# Altium integrated library Infineon_Automotive_System_IC.IntLib: 25 symbols (part 1 of 3)
Pins are listed as number, name and electrical type; pins without a type are passive.

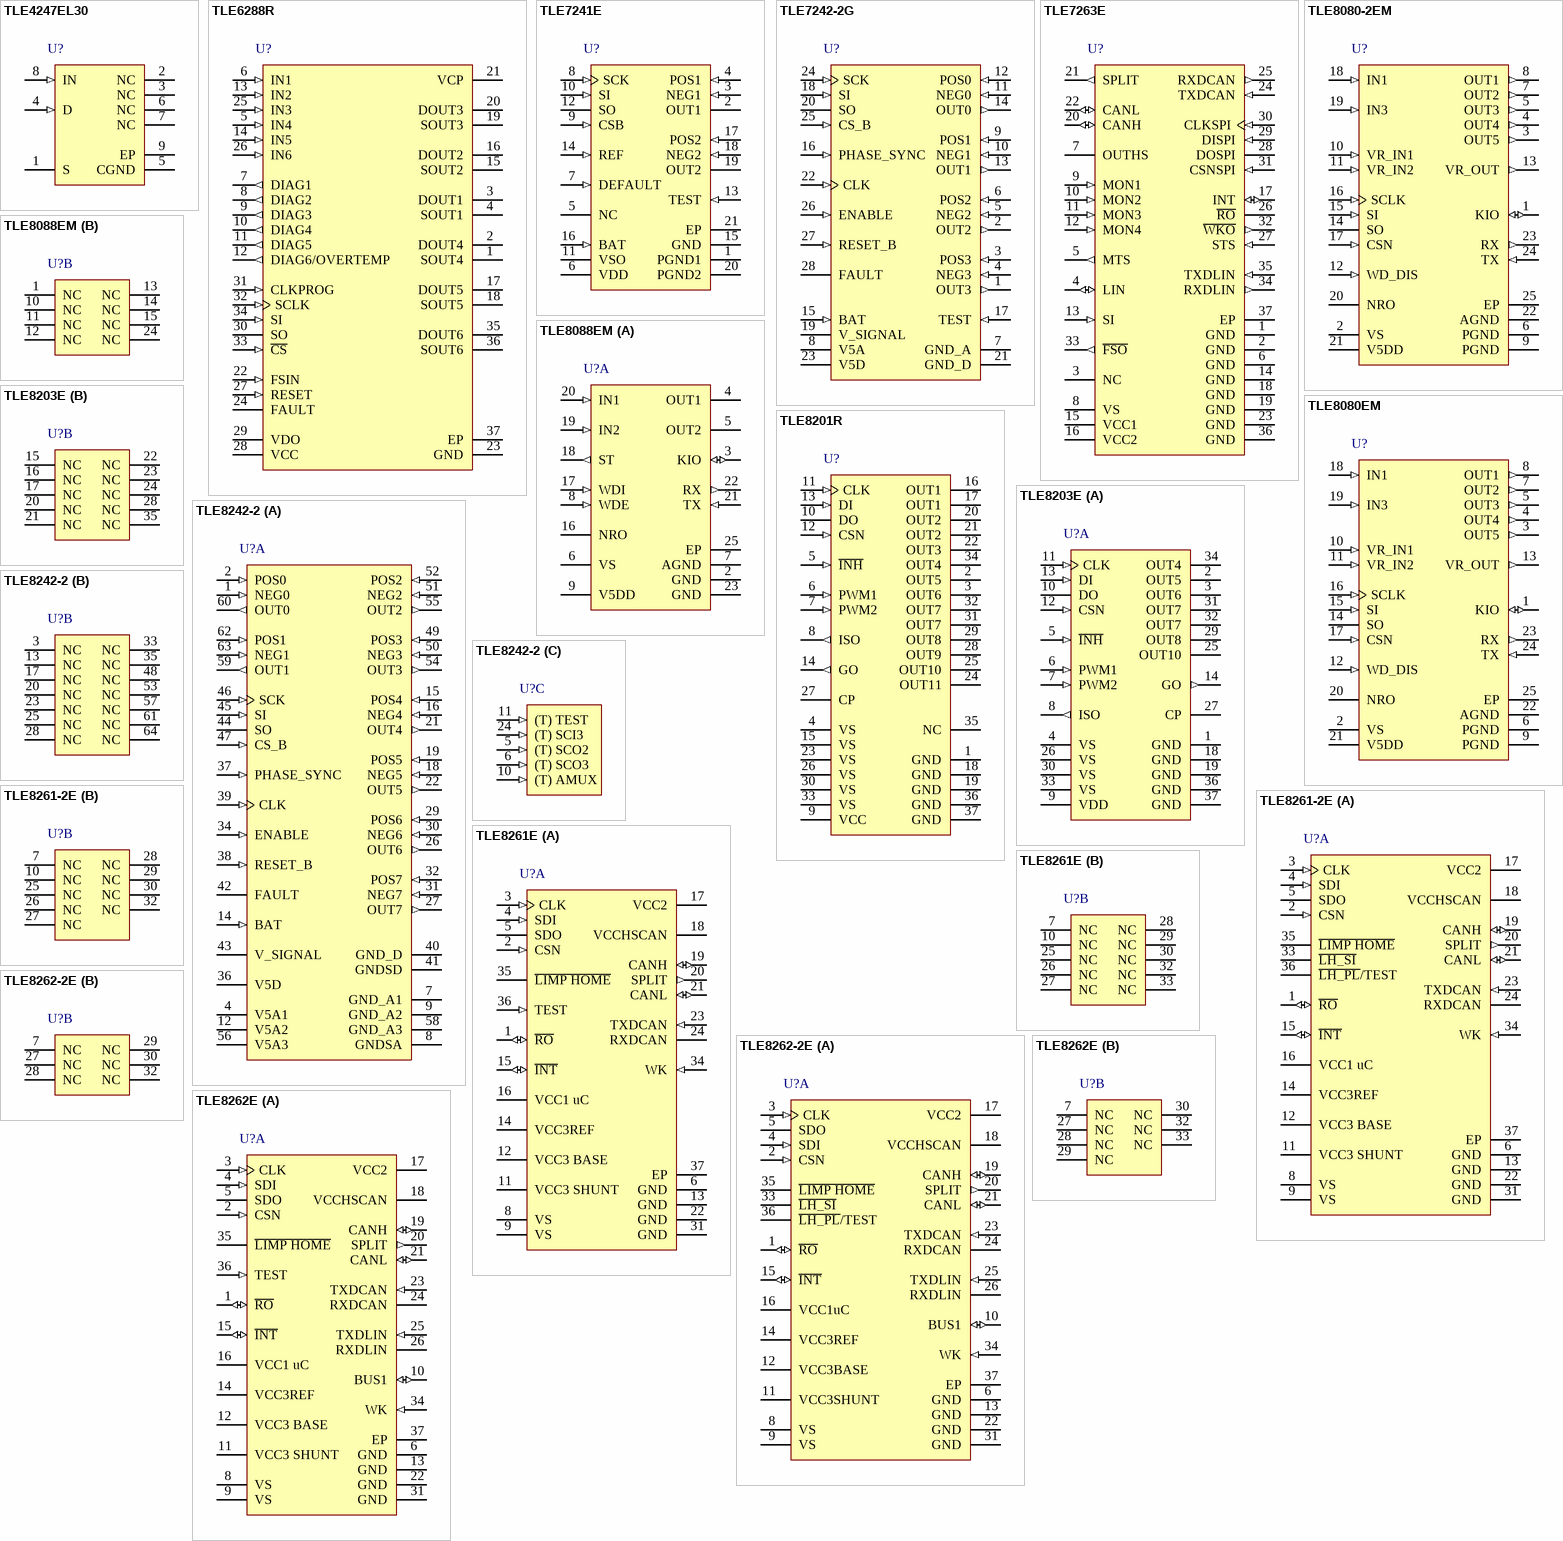
[diagram p0: symbols TLE4247EL30 to TLE8262E]

## TLE4247EL30
designator U?
Constant Current Relay Driver, 3 to 30 V, -40 to 150 degC, PG-DSO-8, Reel, Green; Manufacturer: Infineon; PartNumber: TLE4247EL30; Activation Time Period: 135 ms; Current Consumption (typ.) Hold Mode: 0.85 mA; Green: TRUE; Hold Current (typ): 30 mA; Supply Voltage: 3 to 30 V; DatasheetVersion: Rev. 1.0; PackageVersion: V01, 06/2012; PackageReference: PG-DSO-8-27; PackageDescription: 8-Pin Plastic (Green) Dual Small Outline Package, 4.9 x 3.9 mm Body, 1.27 mm Pitch; Supplier 1: Mouser; Supplier Part Number 1: N/A; Halogen-free: TRUE; Packing: Reel; Mounting Technology: Surface Mount; Code_JEDEC: MS-012; ComponentLink1Description: Manufacturer URL; ComponentLink1URL: http://www.infineon.com/; ComponentLink2Description: Datasheet; ComponentLink2URL: http://www.infineon.com/dgdl/TLE4247EL30-Data-Sheet-10-Infineon.pdf?folderId=db3a30433e4143bd013e45999a993f1d&fileId=db3a3043405f2978014062036317274c; ComponentLink3Description: Package Specification; ComponentLink3URL: http://www.infineon.com/cms/packages/SMD_-_Surface_Mounted_Devices/P-PG-DSO/P-PG-DSO-08-27.html?__locale=en
footprint INF-PG-DSO-8-27_N (SOP, 8-Leads, Body 4.9x3.9mm, Pitch 1.27mm, Thermal Pad 3.2x2.85mm, IPC Medium Density)
footprint INF-PG-DSO-8-27_L (SOP, 8-Leads, Body 4.9x3.9mm, Pitch 1.27mm, Thermal Pad 3.2x2.85mm, IPC High Density)
footprint INF-PG-DSO-8-27_M (SOP, 8-Leads, Body 4.9x3.9mm, Pitch 1.27mm, Thermal Pad 3.2x2.85mm, IPC Low Density)
pins: 1 S (power) "IC Supply; connect to relay coil freewheeling resistor according to Figure 1.", 2 NC "Not Connected; connection to heat sink area and CGND recommended.", 3 NC "Not Connected; connection to heat sink area and CGND recommended.", 4 D (in) "Delay; for generating the activation time length, connect a ceramic capacitor between pin D and CGND.", 5 CGND (power) "Relay Coil Current Output and IC Ground;", 6 NC "Not Connected; connection to heat sink area and CGND recommended.", 7 NC "Not Connected; connection to heat sink area and CGND recommended.", 8 IN (in) "Relay Coil Current Input; connect to relay coil according to Figure 1.", 9 EP (power) "Exposed Pad; interconnect with CGND and heat sink area on PCB."

## TLE6288R
designator U?
Smart 6 Channels Peak & Hold Switch, 6 to 16 V Operating Range, PG-DSO-36-54, Reel, Green; Manufacturer: Infineon; PartNumber: TLE6288R; Channels: 6; Green: TRUE; Operating Range: 6 to 16 V; Output Current: 2 A; Quiescent Current (max.): 0.05 mA; SPI: 16 Bit; DatasheetVersion: Rev. 2.5; PackageVersion: Oct-10; PackageReference: PG-DSO-36-54; PackageDescription: 36-Pin Plastic (Green) Dual Small Outline Package, 15.9 x 11 mm Body, 0.65 mm Pitch; Supplier 1: Mouser; Supplier Part Number 1: 726-TLE6288R; Supplier 2: Digi-Key; Supplier Part Number 2: TLE6288R-ND; Halogen-free: TRUE; Packing: Reel; Mounting Technology: Surface Mount; ComponentLink1Description: Manufacturer URL; ComponentLink1URL: http://www.infineon.com/; ComponentLink2Description: Datasheet; ComponentLink2URL: http://www.infineon.com/dgdl/TLE6288R-Data+Sheet-Infineon-v25.pdf?folderId=db3a3043156fd5730116251ab6c82079&fileId=db3a30432c64a60d012ccae2ad8123bc&sId=db3a30433d68e984013d7e736f6561f3; ComponentLink3Description: Package Specification; ComponentLink3URL: http://www.infineon.com/dgdl/TLE6288R-Data+Sheet-Infineon-v25.pdf?folderId=db3a3043156fd5730116251ab6c82079&fileId=db3a30432c64a60d012ccae2ad8123bc&sId=db3a30433d68e984013d7e736f6561f3
footprint INF-PG-DSO-36-54_N (SOP, 36-Leads, Body 15.9x11mm, Pitch 0.65mm, Thermal Pad 16x6mm, IPC Medium Density)
footprint INF-PG-DSO-36-54_L (SOP, 36-Leads, Body 15.9x11mm, Pitch 0.65mm, Thermal Pad 16x6mm, IPC High Density)
footprint INF-PG-DSO-36-54_M (SOP, 36-Leads, Body 15.9x11mm, Pitch 0.65mm, Thermal Pad 16x6mm, IPC Low Density)
pins: 1 SOUT4 (power) "Source of the 3 configurable channels. In highside configuration they are the outputs and connected to the load. In lowside configuration they must be connected with GND.", 2 DOUT4 (power) "Drain pins of the 3 configurable channels. In highside configuration they must be connected to the same voltage as DOUT1-3. In lowside configuration they are the output pins and connected to the load.", 3 DOUT1 (power) "Drain of the 3 highside channels. These pins must always be connected to the same power (battery) supply line (VB).", 4 SOUT1 (power) "Source of the 3 highside channels. Outputs of the highside channels where the load is connected.", 5 IN4 (in) "Parallel input pins for the 6 power outputs. These pins have an internal pull-down structure.", 6 IN1 (in) "Parallel input pins for the 6 power outputs. These pins have an internal pull-down structure.", 7 DIAG1 (out) "Parallel diagnostic pins (push-pull) change state according to the input signal of the corresponding DIAG6/ channel. For further details refer to Chapter 4.3.1", 8 DIAG2 (out) "Parallel diagnostic pins (push-pull) change state according to the input signal of the corresponding DIAG6/ channel. For further details refer to Chapter 4.3.1", 9 DIAG3 (out) "Parallel diagnostic pins (push-pull) change state according to the input signal of the corresponding DIAG6/ channel. For further details refer to Chapter 4.3.1", 10 DIAG4 (out) "Parallel diagnostic pins (push-pull) change state according to the input signal of the corresponding DIAG6/ channel. For further details refer to Chapter 4.3.1", 11 DIAG5 (out) "Parallel diagnostic pins (push-pull) change state according to the input signal of the corresponding DIAG6/ channel. For further details refer to Chapter 4.3.1", 12 DIAG6/OVERTEMP (out), 13 IN2 (in) "Parallel input pins for the 6 power outputs. These pins have an internal pull-down structure.", 14 IN5 (in) "Parallel input pins for the 6 power outputs. These pins have an internal pull-down structure.", 15 SOUT2 (power) "Source of the 3 highside channels. Outputs of the highside channels where the load is connected.", 16 DOUT2 (power) "Drain of the 3 highside channels. These pins must always be connected to the same power (battery) supply line (VB).", 17 DOUT5 (power) "Drain pins of the 3 configurable channels. In highside configuration they must be connected to the same voltage as DOUT1-3. In lowside configuration they are the output pins and connected to the load.", 18 SOUT5 (power) "Source of the 3 configurable channels. In highside configuration they are the outputs and connected to the load. In lowside configuration they must be connected with GND.", 19 SOUT3 (power) "Source of the 3 highside channels. Outputs of the highside channels where the load is connected.", 20 DOUT3 (power) "Drain of the 3 highside channels. These pins must always be connected to the same power (battery) supply line (VB).", 21 VCP "Pin to connect the external capacitor of the integrated charge pump. Connect a ceramic capacitor with 47 nF between this pin and DOUT3 (VB).", 22 FSIN (in) "Disable pin. If the FSIN pin is in a logic low state, it switches all outputs OFF. The pin has an internal pull-up structure.", 23 GND (power) "Logic ground pin, the heat slug has to be connected to this potential.", 24 FAULT (oc) "General Fault pin. There is a general fault pin (open drain) which shows a high to low transition as soon as an error is latched into the diagnosis register. When the diagnosis register is cleared this flag is also reset (See Datasheet)", 25 IN3 (in) "Parallel input pins for the 6 power outputs. These pins have an internal pull-down structure.", 26 IN6 (in) "Parallel input pins for the 6 power outputs. These pins have an internal pull-down structure.", 27 RESET (in) "Reset pin. When the reset is low all channels are off, the internal biasing is deactivated, all internal registers are cleared and the supply-current consumption is reduced (standby mode). The pin has an internal pull-up (See Datasheet)", 28 VCC (power) "Logic supply pin. This pin is used to supply the integrated circuitry.", 29 VDO (power) "Supply pin of the push-pull digital output drivers. This pin can be used to vary the high-state output voltage of the SO pin and the DIAG1-6 pins.", 30 SO (hiz) "Signal Output of the Serial Peripheral Interface", 31 CLKPROG (in) "Programming pin for the SPI Clock signal. This pin can be used to configure the clock signal input of the SPI. In low state the SPI will read data at the rising clock edge and write data at the falling clock edge. In high (See Datasheet)", 32 SCLK (in) "Clock Input of the Serial Peripheral Interface. The pin has an internal pull-up structure (if CLKProg = L) or an pull-down structure (if CLKProg = H).", 33 ~{CS} (in) "Chip Select of the SPI (active low)", 34 SI (in) "Signal Input of the Serial Peripheral Interface. The pin has an internal pull-down structure.", 35 DOUT6 (power) "Drain pins of the 3 configurable channels. In highside configuration they must be connected to the same voltage as DOUT1-3. In lowside configuration they are the output pins and connected to the load.", 36 SOUT6 (power) "Source of the 3 configurable channels. In highside configuration they are the outputs and connected to the load. In lowside configuration they must be connected with GND.", 37 EP

## TLE7241E
designator U?
Constant Current Control Solenoid Driver, 2 Channels, 9 to18 V Supply, PG-DSO-20-27, Green; Manufacturer: Infineon; PartNumber: TLE7241E; Channels: 2; Green: TRUE; Operating Range: 9 to18 V; Output Current: 1.2 A; Quiescent Current (max.): 1 mA; SPI: 16 Bit; DatasheetVersion: Rev. 1.1; PackageVersion: Apr-09; PackageReference: PG-DSO-20-27; PackageDescription: 20-Pin Plastic (Green) Dual Small Outline Package, 12.7 x 7.5 mm Body, 1.27 mm Pitch; Supplier 1: Digi-Key; Supplier Part Number 1: TLE7241EINTR-ND; Supplier 2: Digi-Key; Supplier Part Number 2: TLE7241EINCT-ND; Supplier 3: Digi-Key; Supplier Part Number 3: TLE7241EINDKR-ND; Halogen-free: TRUE; Mounting Technology: Surface Mount; ComponentLink1Description: Manufacturer URL; ComponentLink1URL: http://www.infineon.com/; ComponentLink2Description: Datasheet; ComponentLink2URL: http://www.infineon.com/dgdl/TLE7241E_DS_11.pdf?folderId=db3a30431400ef68011421b54e2e0564&fileId=db3a3043183a955501184187d31f75e7&sId=db3a30433d68e984013d7f315259625c; ComponentLink3Description: Package Specification; ComponentLink3URL: http://www.infineon.com/dgdl/PG-DSO-20-27%2C-30-Package_Overview.pdf?folderId=db3a30431b0626df011b0b56b8d37d27&fileId=db3a30431c69a49d011c9eab3ee707b8
footprint INF-PG-DSO-20-27_N (SOP, 20-Leads, Body 12.7x7.5mm, Pitch 1.27mm, Thermal Pad 5.2X4.6mm, IPC Medium Density)
footprint INF-PG-DSO-20-27_L (SOP, 20-Leads, Body 12.7x7.5mm, Pitch 1.27mm, Thermal Pad 5.2X4.6mm, IPC High Density)
footprint INF-PG-DSO-20-27_M (SOP, 20-Leads, Body 12.7x7.5mm, Pitch 1.27mm, Thermal Pad 5.2X4.6mm, IPC Low Density)
pins: 1 PGND1 (power) "Power Ground Channel 1; internally connected to PGND2", 2 OUT1 (power) "Output Channel 1; Drain of Output DMOS; connect to negative terminal of external sense resistor", 3 NEG1 (in) "Negative Sense Pin Channel 1; connect to negative terminal of external sense resistor with dedicated trace", 4 POS1 (in) "Positive Sense Pin Channel 1; connect to positive terminal of external sense resistor with dedicated trace", 5 NC "Not Connected; not bonded internally", 6 VDD (power) "Logic Supply Voltage; connect a ceramic capacitor to GND near the device", 7 DEFAULT (in) "Control Input; Active high digital input. 3.3V and 5.0V logic compatible. In case of not used, connect to ground", 8 SCK (in) "SPI Clock; Digital input pin. 3.3V and 5.0V logic compatible", 9 CSB (in) "Chip Select Bar; Active low digital input pin. 3.3V and 5.0V logic compatible", 10 SI (in) "Serial Data Input; 3.3V and 5.0V logic compatible", 11 VSO (power) "SPI Supply Voltage; connect a ceramic capacitor to GND near the device", 12 SO (hiz) "Serial Data Output; Supplied by Vso pin", 13 TEST (in) "Test Pin; connect to GND", 14 REF (in) "Voltage Reference; connect to external 2.5 V reference, or connect to GND to enable internal reference.", 15 GND (power) "Ground; signal ground", 16 BAT (in) "BAT Input; connect to the solenoid supply voltage through a series resistor. Connect a ceramic capacitor to GND near the device", 17 POS2 (in) "Positive Sense Pin Channel 2; connect to positive terminal of external sense resistor with dedicated trace", 18 NEG2 (in) "Negative Sense Pin Channel 2; connect to negative terminal of external sense resistor with dedicated trace", 19 OUT2 (power) "Output Channel 2; Drain of Output DMOS; connect to negative terminal of external sense resistor", 20 PGND2 (power) "Power Ground Channel 2; internally connected to PGND1", 21 EP (power) "GND; Should be connected to GND, PGND1 and PGND2 and to the ground plane of the ECU"

## TLE7242-2G
designator U?
4 Channels Fixed Frequency Constant Current Control IC, 5.5 to 42 V Operating Range, PG-DSO-28-1, Reel, Green; Manufacturer: Infineon; PartNumber: TLE7242-2G; Channels: 4; Green: TRUE; Quiescent Current (max.): 0,005 mA; SPI: 32 Bit; DatasheetVersion: Rev. 1.1; PackageVersion: May-11; PackageReference: PG-DSO-28-1; PackageDescription: 28-Pin Plastic (Green) Dual Small Outline Package, 17.9 x 7.5 mm Body, 1.27 mm Pitch; Supplier 1: Mouser; Supplier Part Number 1: 726-TLE72422G; Supplier 2: Digi-Key; Supplier Part Number 2: TLE7242-2G-ND; Halogen-free: TRUE; Operating Range: 5.5 to 42 V; Packing: Reel; Mounting Technology: Surface Mount; ComponentLink1Description: Manufacturer URL; ComponentLink1URL: http://www.infineon.com/; ComponentLink2Description: Datasheet; ComponentLink2URL: http://www.infineon.com/dgdl/TLE7242-2G-Data-Sheet_11.pdf?folderId=db3a30431400ef68011421b54e2e0564&fileId=db3a30431ed1d7b2011eee8d146f5480&sId=db3a30443d67b5ca013d800a7dd52c12; ComponentLink3Description: Package Specification; ComponentLink3URL: http://www.infineon.com/dgdl/TLE7242-2G-Data-Sheet_11.pdf?folderId=db3a30431400ef68011421b54e2e0564&fileId=db3a30431ed1d7b2011eee8d146f5480&sId=db3a30443d67b5ca013d800a7dd52c12
footprint INF-PG-DSO-28-1_N (SOP, 28-Leads, Body 17.9x7.5mm, Pitch 1.27mm, IPC Medium Density)
footprint INF-PG-DSO-28-1_L (SOP, 28-Leads, Body 17.9x7.5mm, Pitch 1.27mm, IPC High Density)
footprint INF-PG-DSO-28-1_M (SOP, 28-Leads, Body 17.9x7.5mm, Pitch 1.27mm, IPC Low Density)
pins: 1 OUT3 (out) "Gate driver output for channel #3. Connect to the gate of the external MOSFET.", 2 OUT2 (out) "Gate driver output for channel #2. Connect to the gate of the external MOSFET.", 3 POS3 (in) "Channel #3 Positive sense pin. Connect to the "load" side of the external sense resistor.", 4 NEG3 (in) "Channel #3 Negative sense pin. Connect to the "FET" side of the external sense resistor.", 5 NEG2 (in) "Channel #2 Negative sense pin. Connect to the "FET" side of the external sense resistor.", 6 POS2 (in) "Channel #2 Positive sense pin. Connect to the "load" side of the external sense resistor.", 7 GND_A (power) "Analog Ground", 8 V5A (power) "5V supply pin for analog. An external capacitor is to be connected between this pin and GND_A near this pin.", 9 POS1 (in) "Channel #1 Positive sense pin. Connect to the "load" side of the external sense resistor.", 10 NEG1 (in) "Channel #1 Negative sense pin. Connect to the "FET" side of the external sense resistor.", 11 NEG0 (in) "Channel #0 Negative sense pin. Connect to the "FET" side of the external sense resistor.", 12 POS0 (in) "Channel #0 Positive sense pin. Connect to the "load" side of the external sense resistor.", 13 OUT1 (out) "Gate driver output for channel #1. Connect to the gate of the external MOSFET.", 14 OUT0 (out) "Gate driver output for channel #0. Connect to the gate of the external MOSFET.", 15 BAT (in) "Battery sense input for over voltage detection. Connect through a series resistor (e.g. 1 Kohm) to the solenoid supply voltage. A large electrolytic capacitor (e.g. 47uF) should be placed between the BAT supply and ground.", 16 PHASE_SYNC (in) "Used to synchronize the rising edges of the PWM signal on the OUTx pins for each channel.", 17 TEST (in) "Used for IC Test. Must be connected to GND_D for specified operation of the IC.", 18 SI (in) "SPI Serial data in", 19 V_SIGNAL (power) "Supply pin for the SPI SO output and the pull-ups of the digital inputs CS_B and RESET_B. An external capacitor must be connected between this pin and GND_D near this pin.", 20 SO (hiz) "SPI Serial data out", 21 GND_D (power) "GND pin for digital and driver circuitry.", 22 CLK (in) "Main clock input for the IC. A clock input of 20 MHz to 40 MHz is required.", 23 V5D (power) "5V supply pin for the digital circuit blocks and the OUT pin driver circuits. A pair of external capacitors is to be connected between this pin and GND_D very near this pin. Example values of the external capacitors are (See Datasheet)", 24 SCK (in) "SPI Clock input", 25 CS_B (in) "SPI Chip Select Bar (low active signal)", 26 ENABLE (in) "When this input pin is low all channels are turned off (zero current) or remain in their last state, depending on how the channel is programmed to respond", 27 RESET_B (in) "When this input pin is low all channels are turned off and all internal registers are reset to their default state. The part must be held in reset by an external source until all supplies are stable and within tolerance.", 28 FAULT (oc) "This open drain output pin is pulled low when a fault condition is detected. Certain faults can be masked via SPI."

## TLE7263E
designator U?
Integrated HS-CAN, LIN, LDO and HS Switch System Basis Chip with Window Watchdog, PG-DSO-36-24, Reel, Green; Manufacturer: Infineon; PartNumber: TLE7263E; Failure Management: Fail Safe Output CAN Failure Detection; Green: TRUE; Group: High Speed CAN + LIN; Output drivers: 1 x High-Side Switch 150 mA; Quiescent Current (max.): 49 uA (typ) Sleep Mode (5V on); Standby Current: 68 uA (typ) Stop Mode (5V on); Transceiver: High Speed CAN ISO 11898 - 5 / 1 x LIN2.0 / J2602; Voltage Regulator Output: 200 mA + 200 mA; Wake-up inputs: 4 Wake Pins (cyclic sense), CAN, LIN; DatasheetVersion: Rev. 1.70; PackageVersion: Apr-09; PackageReference: PG-DSO-36-24; PackageDescription: 36-Pin Plastic (Green) Dual Small Outline Package, 12.7 x 7.5 mm Body, 0.65 mm Pitch; Supplier 1: Mouser; Supplier Part Number 1: 726-TLE7263E; Supplier 2: Digi-Key; Supplier Part Number 2: TLE7263EINTR-ND; Supplier 3: Digi-Key; Supplier Part Number 3: TLE7263EINCT-ND; Supplier 4: Digi-Key; Supplier Part Number 4: TLE7263EINDKR-ND; Halogen-free: TRUE; Packing: Reel; Watchdog: Window Watchdog; Mounting Technology: Surface Mount; ComponentLink1Description: Manufacturer URL; ComponentLink1URL: http://www.infineon.com/; ComponentLink2Description: Datasheet; ComponentLink2URL: http://www.infineon.com/dgdl/TLE7263_DS_170.pdf?folderId=db3a304412b407950112b408e8c90004&fileId=db3a304412b407950112b426a3983a37&location=en.Products.Automotive_ICs.System_Basis_Chips__SBC_.DATASHEET.TLE7263_DS_170.pdf; ComponentLink3Description: Package Specification; ComponentLink3URL: http://www.infineon.com/dgdl/PG-DSO-36-24%2C-38%2C-41%2C-42%2C-50-Package_Overview.pdf?folderId=db3a304316f66ee801179ce26c705f4a&fileId=db3a304319c6f18c011a3ac6ea200605
footprint INF-PG-DSO-36-24_N (SOP, 36-Leads, Body 12.7x7.5mm, Pitch 0.65mm, Thermal Pad 7x5.1mm, IPC Medium Density)
footprint INF-PG-DSO-36-24_L (SOP, 36-Leads, Body 12.7x7.5mm, Pitch 0.65mm, Thermal Pad 7x5.1mm, IPC High Density)
footprint INF-PG-DSO-36-24_M (SOP, 36-Leads, Body 12.7x7.5mm, Pitch 0.65mm, Thermal Pad 7x5.1mm, IPC Low Density)
pins: 1 GND (power) "Ground", 2 GND (power) "Ground", 3 NC "Not Connected Internally; leave open or connect to GND", 4 LIN (io) "LIN Bus; Bus Line for the LIN interface, according to ISO 9141 and LIN specification 1.3 and 2.0", 5 MTS (out) "Master Termination Switch; output used to turn-on the termination/pull-up resistor of a LIN master", 6 GND (power) "Ground", 7 OUTHS (power) "High Side Switch Output; controlled via SPI, in SBC Sleep Mode controlled by internal cyclic sense function when selected", 8 VS (power) "Power Supply Input; block to GND directly at the IC with ceramic capacitor; (ferrite recommended for better EMC behavior)", 9 MON1 (in) "Monitoring / Wake-Up Inputs; bi level sensitive inputs used to monitor signals coming from, for example, an external switch panel; also used as wake-up input during cyclic sensing in low power modes (MON4 is exempted from (See Datasheet)", 10 MON2 (in) "Monitoring / Wake-Up Inputs; bi level sensitive inputs used to monitor signals coming from, for example, an external switch panel; also used as wake-up input during cyclic sensing in low power modes (MON4 is exempted from (See Datasheet)", 11 MON3 (in) "Monitoring / Wake-Up Inputs; bi level sensitive inputs used to monitor signals coming from, for example, an external switch panel; also used as wake-up input during cyclic sensing in low power modes (MON4 is exempted from (See Datasheet)", 12 MON4 (in) "Monitoring / Wake-Up Inputs; bi level sensitive inputs used to monitor signals coming from, for example, an external switch panel; also used as wake-up input during cyclic sensing in low power modes (MON4 is exempted from (See Datasheet)", 13 SI (in) "Sense Comparator Input; for monitoring of external voltages, to program the detection level connect external voltage divider", 14 GND (power) "Ground", 15 VCC1 (power) "Voltage Regulator Output (V1); 5 V supply; to stabilize block to GND with an external capacitor CQ >= 10 uF, ESR < 6 ohm", 16 VCC2 (power) "Voltage Regulator Output (V2); 5 V supply; to stabilize block to GND with an external capacitor CQ >= 10 uF, ESR < 6 ohm", 17 INT (io) "Interrupt Output; output to monitor sense comparator input condition; input for enabling the Flash Programming Mode (voltage to be applied > 7 V)", 18 GND (power) "Ground", 19 GND (power) "Ground", 20 CANH (io) "CAN High Line Output", 21 SPLIT (out) "CAN Termination Output; to support the recessive voltage level of the bus lines", 22 CANL (io) "CAN Low Line Input", 23 GND (power) "Ground", 24 TXDCAN (in) "CAN Transmit Data Input; integrated pull-up", 25 RXDCAN (out) "CAN Receive Data Output", 26 ~{RO} (oc) "Reset Output; open drain output, integrated pull-up, active low", 27 STS (in) "Send-to-Sleep; to switch the SBC back into low current mode during cyclic wake", 28 DOSPI (hiz) "SPI Data Output; this tri-state output transfers diagnosis data to the control device; the output will remain 3-stated unless the device is selected by a low on Chip-Select-Not (CSN)", 29 DISPI (in) "SPI Data Input; receives serial data from the control device; serial data transmitted to DI is a 16-bit control word with the Least Significant Bit (LSB) transferred first: the input has a pull-down and requires CMOS logic (See Datasheet)", 30 CLKSPI (in) "SPI Clock Input; clock input for shift register; CLK has an internal pull-down and requires CMOS logic level inputs", 31 CSNSPI (in) "SPI Chip Select Not Input; CSN is an active low input; serial communication is enabled by pulling the CSN terminal low; CSN input should only be transitioned when CLK is low; CSN has an internal pull-up and requires CMOS (See Datasheet)", 32 ~{WKO} (out) "Wake-Up Event Output; indicates wake up via monitoring inputs, CAN or LIN during Sleep or Stop Mode; active low; wake up sets device to Standby Mode", 33 ~{FSO} (out) "Fail Safe Output; to supervise and control critical applications, high when watchdog is correctly served, low at any reset condition; active low", 34 RXDLIN (out) "LIN Transceiver Data Output; according to the ISO 9141 and LIN specification 1.3 and 2.0; push-pull output; LOW in dominant state", 35 TXDLIN (in) "LIN Transceiver Data Input; according to ISO 9141 and LIN specification 1.3 and 2.0", 36 GND (power) "Ground", 37 EP (power) "Exposed Pad; internally connected to GND; connect to GND on board"

## TLE8080-2EM
designator U?
Engine Management IC for Small Engine, 6 to 18 V Supply, PG-SSOP-24-4, Reel, Green; Manufacturer: Infineon; PartNumber: TLE8080-2EM; 5-V Supply: 250 mA; Green: TRUE; Output Current Inductive Load Channel: 2 x 1,3 (2,6) A Nominal (max); Output Current Relay Channels: 2 x 300 (350) mA; Output Current Resistive Load Channel: 1 x 0,3 (3) A Nominal (max); Supply Voltage: 6 to 18 V; DatasheetVersion: Rev. 1.1; PackageVersion: Oct-12; PackageReference: PG-SSOP-24-4; PackageDescription: 24-Pin Plastic (Green) Shrink Small Outline Package, 8.65 x 3.9 mm Body, 0.65 mm Pitch; Supplier 1: Mouser; Supplier Part Number 1: N/A; Halogen-free: TRUE; K-Line acc. ISO 9141: TRUE; Packing: Reel; SPI I/F Diagnosis / Control: TRUE; VRS I/F: TRUE; Mounting Technology: Surface Mount; ComponentLink1Description: Manufacturer URL; ComponentLink1URL: http://www.infineon.com/; ComponentLink2Description: Datasheet; ComponentLink2URL: http://www.infineon.com/dgdl/TLE8080EM_DS_11.pdf?folderId=db3a30431b3e89eb011bb632994f065b&fileId=db3a30433a047ba0013a446d32b90bb5&location=en.Products.Automotive_ICs.Powertrain_ICs.Power_Interface_Products_for_Motorcycle_and_Small_Engines.DATASHEET.TLE8080EM_DS_11.pdf; ComponentLink3Description: Package Specification; ComponentLink3URL: http://www.infineon.com/dgdl/TLE8088EM_DS_10.pdf?folderId=db3a30431b3e89eb011bb632994f065b&fileId=db3a30433a047ba0013a446e76be0bbb&location=en.Products.Automotive_ICs.Powertrain_ICs.Power_Interface_Products_for_Motorcycle_and_Small_Engines.DATASHEET.TLE8088EM_DS_10.pdf
footprint INF-PG-SSOP-24-4_N (SOP, 24-Leads, Body 8.65x3.9mm, Pitch 0.65mm, Thermal Pad 6.65x2.9mm, IPC Medium Density)
footprint INF-PG-SSOP-24-4_L (SOP, 24-Leads, Body 8.65x3.9mm, Pitch 0.65mm, Thermal Pad 6.65x2.9mm, IPC High Density)
footprint INF-PG-SSOP-24-4_M (SOP, 24-Leads, Body 8.65x3.9mm, Pitch 0.65mm, Thermal Pad 6.65x2.9mm, IPC Low Density)
pins: 1 KIO (io) "K-Line Bus Connection", 2 VS (power) "Battery Voltage: Block to AGND directly at the IC with min. 100nF ceramic capacitor", 3 OUT5 (out) "Output Channel 5", 4 OUT4 (out) "Output Channel 4", 5 OUT3 (out) "Output Channel 3", 6 PGND (power) "Power Ground: internally connected to pin 9, connect externally to pin 9", 7 OUT2 (out) "Output Channel 2", 8 OUT1 (out) "Output Channel 1", 9 PGND (power) "Power Ground: internally connected to pin 6, connect externally to pin 6", 10 VR_IN1 (in) "VR Sensor Interface Input 1", 11 VR_IN2 (in) "VR Sensor Interface Input 2", 12 WD_DIS (in) "Watchdog Disable: high active; internal pull down", 13 VR_OUT (out) "VR Sensor Output", 14 SO (hiz) "SPI Slave Output: high impedance", 15 SI (in) "SPI Slave Input: internal pull down", 16 SCLK (in) "SPI Clock Input: internal pull down", 17 CSN (in) "SPI Chip Select Input: low active; internal pull up", 18 IN1 (in) "Control Input Channel 1: internal pull down", 19 IN3 (in) "Control Input Channel 3: internal pull down", 20 NRO (oc) "Reset Output: low active, open drain", 21 V5DD (power) "5V Supply Output: connected to external blocking capacitor", 22 AGND (power) "Analog Ground: connected to system logic ground", 23 RX (out) "K-Line Receive Output: logic output of data received from the K-Line bus KIO", 24 TX (in) "K-Line Transmit Input: logic level input for data to be transmitted on the K-Line bus KIO; internal pull up", 25 EP (power) "Substrate Connection: must be connected to PGND externally on PCB"

## TLE8080EM
designator U?
Engine Management IC for Small Engine, 6 to 18 V Supply, PG-SSOP-24-4, Reel, Green; Manufacturer: Infineon; PartNumber: TLE8080EM; 5-V Supply: 250 mA; Green: TRUE; Output Current Inductive Load Channel: 2 x 1,3 (2,6) A Nominal (max); Output Current Relay Channels: 2 x 300 (350) mA; Output Current Resistive Load Channel: 1 x 0,3 (3) A Nominal (max); Supply Voltage: 6 to 18 V; DatasheetVersion: Rev. 1.1; PackageVersion: Oct-12; PackageReference: PG-SSOP-24-4; PackageDescription: 24-Pin Plastic (Green) Shrink Small Outline Package, 8.65 x 3.9 mm Body, 0.65 mm Pitch; Halogen-free: TRUE; K-Line acc. ISO 9141: TRUE; Packing: Reel; SPI I/F Diagnosis / Control: TRUE; VRS I/F: TRUE; Mounting Technology: Surface Mount; ComponentLink1Description: Manufacturer URL; ComponentLink1URL: http://www.infineon.com/; ComponentLink2Description: Datasheet; ComponentLink2URL: http://www.infineon.com/dgdl/TLE8080EM_DS_11.pdf?folderId=db3a30431b3e89eb011bb632994f065b&fileId=db3a30433a047ba0013a446d32b90bb5&location=en.Products.Automotive_ICs.Powertrain_ICs.Power_Interface_Products_for_Motorcycle_and_Small_Engines.DATASHEET.TLE8080EM_DS_11.pdf; ComponentLink3Description: Package Specification; ComponentLink3URL: http://www.infineon.com/dgdl/TLE8088EM_DS_10.pdf?folderId=db3a30431b3e89eb011bb632994f065b&fileId=db3a30433a047ba0013a446e76be0bbb&location=en.Products.Automotive_ICs.Powertrain_ICs.Power_Interface_Products_for_Motorcycle_and_Small_Engines.DATASHEET.TLE8088EM_DS_10.pdf
footprint INF-PG-SSOP-24-4_N (SOP, 24-Leads, Body 8.65x3.9mm, Pitch 0.65mm, Thermal Pad 6.65x2.9mm, IPC Medium Density)
footprint INF-PG-SSOP-24-4_L (SOP, 24-Leads, Body 8.65x3.9mm, Pitch 0.65mm, Thermal Pad 6.65x2.9mm, IPC High Density)
footprint INF-PG-SSOP-24-4_M (SOP, 24-Leads, Body 8.65x3.9mm, Pitch 0.65mm, Thermal Pad 6.65x2.9mm, IPC Low Density)
pins: 1 KIO (io) "K-Line Bus Connection", 2 VS (power) "Battery Voltage: Block to AGND directly at the IC with min. 100nF ceramic capacitor", 3 OUT5 (out) "Output Channel 5", 4 OUT4 (out) "Output Channel 4", 5 OUT3 (out) "Output Channel 3", 6 PGND (power) "Power Ground: internally connected to pin 9, connect externally to pin 9", 7 OUT2 (out) "Output Channel 2", 8 OUT1 (out) "Output Channel 1", 9 PGND (power) "Power Ground: internally connected to pin 6, connect externally to pin 6", 10 VR_IN1 (in) "VR Sensor Interface Input 1", 11 VR_IN2 (in) "VR Sensor Interface Input 2", 12 WD_DIS (in) "Watchdog Disable: high active; internal pull down", 13 VR_OUT (out) "VR Sensor Output", 14 SO (hiz) "SPI Slave Output: high impedance", 15 SI (in) "SPI Slave Input: internal pull down", 16 SCLK (in) "SPI Clock Input: internal pull down", 17 CSN (in) "SPI Chip Select Input: low active; internal pull up", 18 IN1 (in) "Control Input Channel 1: internal pull down", 19 IN3 (in) "Control Input Channel 3: internal pull down", 20 NRO (oc) "Reset Output: low active, open drain", 21 V5DD (power) "5V Supply Output: connected to external blocking capacitor", 22 AGND (power) "Analog Ground: connected to system logic ground", 23 RX (out) "K-Line Receive Output: logic output of data received from the K-Line bus KIO", 24 TX (in) "K-Line Transmit Input: logic level input for data to be transmitted on the K-Line bus KIO; internal pull up", 25 EP (power) "Substrate Connection: must be connected to PGND externally on PCB"

## TLE8088EM
designator U?
Engine Management IC for Small Engine, 6 to 18 V Supply, PG-SSOP-24-4, Reel, Green; Manufacturer: Infineon; PartNumber: TLE8088EM; 5-V Supply: 150 mA; Green: TRUE; Output Current Inductive Load Channel: 1 x 1,3 (2,6) A Nominal (max); Output Current Relay Channels: FALSE; Output Current Resistive Load Channel: 1 x 0,3 (3) A Nominal (max); Supply Voltage: 6 to 18 V; DatasheetVersion: Rev 1.0; PackageVersion: Oct-12; PackageReference: PG-SSOP-24-4; PackageDescription: 24-Pin Plastic (Green) Shrink Small Outline Package, 8.65 x 3.9 mm Body, 0.65 mm Pitch; Halogen-free: TRUE; K-Line acc. ISO 9141: TRUE; Packing: Reel; SPI I/F Diagnosis / Control: FALSE; VRS I/F: FALSE; Mounting Technology: Surface Mount; ComponentLink1Description: Manufacturer URL; ComponentLink1URL: http://www.infineon.com/; ComponentLink2Description: Datasheet; ComponentLink2URL: http://www.infineon.com/dgdl/TLE8088EM_DS_10.pdf?folderId=db3a30431b3e89eb011bb632994f065b&fileId=db3a30433a047ba0013a446e76be0bbb&location=en.Products.Automotive_ICs.Powertrain_ICs.Power_Interface_Products_for_Motorcycle_and_Small_Engines.DATASHEET.TLE8088EM_DS_10.pdf; ComponentLink3Description: Package Specification; ComponentLink3URL: http://www.infineon.com/dgdl/TLE8088EM_DS_10.pdf?folderId=db3a30431b3e89eb011bb632994f065b&fileId=db3a30433a047ba0013a446e76be0bbb&location=en.Products.Automotive_ICs.Powertrain_ICs.Power_Interface_Products_for_Motorcycle_and_Small_Engines.DATASHEET.TLE8088EM_DS_10.pdf
footprint INF-PG-SSOP-24-4_N (SOP, 24-Leads, Body 8.65x3.9mm, Pitch 0.65mm, Thermal Pad 6.65x2.9mm, IPC Medium Density)
footprint INF-PG-SSOP-24-4_L (SOP, 24-Leads, Body 8.65x3.9mm, Pitch 0.65mm, Thermal Pad 6.65x2.9mm, IPC High Density)
footprint INF-PG-SSOP-24-4_M (SOP, 24-Leads, Body 8.65x3.9mm, Pitch 0.65mm, Thermal Pad 6.65x2.9mm, IPC Low Density)
part A pins: 2 GND (power) "Power Ground", 3 KIO (io) "K-Line bus connection", 4 OUT1 (power) "Output channel 1", 5 OUT2 (power) "Output channel 2", 6 VS (power) "Battery voltage: 100nF ceramic capacitor directly connected at the IC to ground", 7 AGND (power) "Analog ground: should be connected to the system logic ground", 8 WDE (in) "Watchdog enable: active high, internal pull up", 9 V5DD (power) "5V supply output: connected to external blocking capacitor.", 16 NRO (oc) "Reset output: open drain, active low", 17 WDI (in) "Watchdog input: trigger input for watchdog pulses", 18 ST (out) "Status signal: output diagnostic signal", 19 IN2 (in) "Control Input Channel 2: internal pull down", 20 IN1 (in) "Control Input Channel 1: internal pull down", 21 TX (in) "Logic level input for data to be transmitted on the K-Line bus KIO", 22 RX (out) "Logic output of data received from the K-Line bus KIO.", 23 GND (power) "Power Ground", 25 EP (power) "Should be connected to GND and to the ground plane of the ECU"
part B pins: 1 NC "Not connected", 10 NC "Not connected", 11 NC "Not connected", 12 NC "Not connected", 13 NC "Not connected", 14 NC "Not connected", 15 NC "Not connected", 24 NC "Not connected"

## TLE8201R
designator U?
Door Module Power IC, -40 to 150 degC, PG-DSO-36-27, Reel, Green; Manufacturer: Infineon; PartNumber: TLE8201R; Green: TRUE; Group: Door Module IC´s; IPeak: 8 A peak for OUT 1.2 ; 6.25 A peak for OUT 7; Iq: Icc_q = 1 uA max ; Is_q = 5 uA max; Iq (typ): 0.2 uA; 2.5 uA; Operating Range: 8 to 20 V; 5 to 40 V; Protect: Overtemp. e.a.; DatasheetVersion: Rev. 2.0; PackageVersion: Jun-06; PackageReference: PG-DSO-36-27; PackageDescription: 36-Pin Plastic (Green) Dual Small Outline Package, 15.9 x 11 mm Body, 0.65 mm Pitch; Supplier 1: Mouser; Supplier Part Number 1: 726-TLE8201R; Supplier 2: Digi-Key; Supplier Part Number 2: TLE8201RINTR-ND; Supplier 3: Digi-Key; Supplier Part Number 3: TLE8201RINCT-ND; Supplier 4: Digi-Key; Supplier Part Number 4: TLE8201RINDKR-ND; Halogen-free: TRUE; Inhibit: TRUE; Packing: Reel; Technology: BCD; Mounting Technology: Surface Mount; ComponentLink1Description: Manufacturer URL; ComponentLink1URL: http://www.infineon.com/; ComponentLink2Description: Datasheet; ComponentLink2URL: http://www.infineon.com/dgdl/Datasheet_TLE8201_Rev20.pdf?folderId=db3a304412b407950112b408e8c90004&fileId=db3a304412b407950112b409a5f20326&location=en.Products.Automotive_ICs.Motor_Drivers__Automotive_.Integrated_Smart_Power_Motor_Drivers.DATASHEET.Datasheet_TLE8201_Rev20.pdf; ComponentLink3Description: Package Specification; ComponentLink3URL: http://www.infineon.com/dgdl/Datasheet_TLE8201_Rev20.pdf?folderId=db3a304412b407950112b408e8c90004&fileId=db3a304412b407950112b409a5f20326&sId=db3a30443d67b5ca013d7cbf680d1c42
footprint INF-PG-DSO-36-27_N (SOP, 36-Leads, Body 15.9x11mm, Pitch 0.65mm, Thermal Pad 15.84x6mm, IPC Medium Density)
footprint INF-PG-DSO-36-27_L (SOP, 36-Leads, Body 15.9x11mm, Pitch 0.65mm, Thermal Pad 15.84x6mm, IPC High Density)
footprint INF-PG-DSO-36-27_M (SOP, 36-Leads, Body 15.9x11mm, Pitch 0.65mm, Thermal Pad 15.84x6mm, IPC Low Density)
pins: 1 GND (power) "Ground; internally connected to cooling tab (heat slug).", 2 OUT5 (power) "Power-Output of half-bridge 5; DMOS half-bridge", 3 OUT6 (power) "Power-Output of half-bridge 6; DMOS half-bridge.", 4 VS (power) "Power supply; needs decoupling capacitors to GND. > 47uF electrolytic in parallel with 100nF ceramic is recommended. All Vs pins must be connected externally", 5 ~{INH} (in) "Inhibit; active low. Sets the device in sleep mode with low current consumption when left open or pulled to LOW. Has an internal pull down current source", 6 PWM1 (in) "Logic Input for direct power stage control; direct input to control the high-side switches selected by the SPI xsel1 bits in control register CtrlReg01", 7 PWM2 (in) "Logic Input for direct power stage control; direct input to control the switches selected by the SPI xsel2 bits in control register CtrlReg11", 8 ISO (out) "Current sense output; Mirrors the current of the high-side switch selected by the current sense multiplexer control bits ISx", 9 VCC (power) "Logic Supply Voltage; needs decoupling capacitors to GND (pin 1). 10uF electrolytic in parallel with 10nF ceramic is recommended", 10 DO (hiz) "Serial Data Output; Transfers data to the master when the chip is selected by CSN=LOW. Data transmission is synchronized by CLK, DO state is changed on the rising edge of CLK. The most significant bit (MSB) is transferred (See Datasheet)", 11 CLK (in) "Serial Data Clock Input; Receives the clock signal from the master and clocks the SPI shift register. Has an internal pull down current source", 12 CSN (in) "Serial Port Chip Select Not Input; SPI communication is enabled by pulling CSN to LOW. CLK must be LOW during the transition of CSN. The CSN-pin has an internal pull-up current source", 13 DI (in) "Serial Data Input; Receives serial data from the master when the chip is selected by CSN=LOW. Data transmission is synchronized by CLK. Data are accepted on the falling edge of CLK. The LSB is transferred first. The DI-pin (See Datasheet)", 14 GO (out) "Gate Out; Charge pump output to drive the gate of external n-channel MOS-FET for reverse polarity protection", 15 VS (power) "Power supply; needs decoupling capacitors to GND. > 47uF electrolytic in parallel with 100nF ceramic is recommended. All Vs pins must be connected externally", 16 OUT1 (power) "Power-Output of half-bridge 1; DMOS half-bridge.", 17 OUT1 (power) "Power-Output of half-bridge 1; DMOS half-bridge.", 18 GND (power) "Ground; internally connected to cooling tab (heat slug).", 19 GND (power) "Ground; internally connected to cooling tab (heat slug).", 20 OUT2 (power) "Power-Output of half-bridge 2; DMOS half-bridge.", 21 OUT2 (power) "Power-Output of half-bridge 2; DMOS half-bridge.", 22 OUT3 (power) "Power-Output of half-bridge 3; DMOS half-bridge", 23 VS (power) "Power supply; needs decoupling capacitors to GND. > 47uF electrolytic in parallel with 100nF ceramic is recommended. All Vs pins must be connected externally", 24 OUT11 (power) "Power Output of high-side switch 11; DMOS high-side switch", 25 OUT10 (power) "Power Output of high-side switch 10; DMOS high-side switch", 26 VS (power) "Power supply; needs decoupling capacitors to GND. > 47uF electrolytic in parallel with 100nF ceramic is recommended. All Vs pins must be connected externally", 27 CP "Charge Pump; pin for optional external charge-pump reservoir capacitor. 3.3 nF to Vs is recommended", 28 OUT9 (power) "Power-Output of high-side switch 9; DMOS high-side switch", 29 OUT8 (power) "Power-Output of high-side switch 8; DMOS high-side switch", 30 VS (power) "Power supply; needs decoupling capacitors to GND. > 47uF electrolytic in parallel with 100nF ceramic is recommended. All Vs pins must be connected externally", 31 OUT7 (power) "Power Output of high-side switch 7; DMOS high-side switch", 32 OUT7 (power) "Power Output of high-side switch 7; DMOS high-side switch", 33 VS (power) "Power supply; needs decoupling capacitors to GND. > 47uF electrolytic in parallel with 100nF ceramic is recommended. All Vs pins must be connected externally", 34 OUT4 (power) "Power-Output of half-bridge 4; DMOS half-bridge", 35 NC "Not connected", 36 GND (power) "Ground; internally connected to cooling tab (heat slug).", 37 GND (power) "Cooling tab, internally connected to GND; to reduce thermal resistance place cooling areas and thermal vias on PCB."

## TLE8203E
designator U?
Mirror Power IC, -40 to 150 degC, PG-DSO-36-50, Reel, Green; Manufacturer: Infineon; PartNumber: TLE8203E; Green: TRUE; Group: Door Module IC´s; IPeak: 6.25 A for OUT 7; Iq: Icc_q = 1 uA max ; Is_q = 5 uA max; Iq (typ): 0.2 uA; 2.5 uA; Operating Range: 8 to 20 V; 5 to 40 V; Protect: OT, OV, OL, SC; DatasheetVersion: Rev. 1.0; PackageVersion: Feb-09; PackageReference: PG-DSO-36-50; PackageDescription: 36-Pin Plastic (Green) Dual Small Outline Package, 12.7 x 7.5 mm Body, 0.65 mm Pitch; Supplier 1: Mouser; Supplier Part Number 1: 726-TLE8203E; Supplier 2: Digi-Key; Supplier Part Number 2: TLE8203E-ND; Halogen-free: TRUE; Inhibit: TRUE; Packing: Reel; Technology: BCD; Mounting Technology: Surface Mount; ComponentLink1Description: Manufacturer URL; ComponentLink1URL: http://www.infineon.com/; ComponentLink2Description: Datasheet; ComponentLink2URL: http://www.infineon.com/dgdl/TLE%25208203E_DS_V1.0%5B1%5D.pdf?folderId=db3a3043156fd5730116144c5d101c30&fileId=db3a30431f848401011fc7e8d24a7aaf&location=en.Products.Automotive_ICs.Motor_Drivers__Automotive_.Integrated_Smart_Power_Motor_Drivers.DATASHEET.TLE%208203E_DS_V1.0[1].pdf; ComponentLink3Description: Package Specification; ComponentLink3URL: http://www.infineon.com/dgdl/TLE%25208203E_DS_V1.0%5B1%5D.pdf?folderId=db3a3043156fd5730116144c5d101c30&fileId=db3a30431f848401011fc7e8d24a7aaf&sId=db3a30443d67b5ca013d7d0010481cd1
footprint INF-PG-DSO-36-50_N (SOP, 36-Leads, Body 12.7x7.5mm, Pitch 0.65mm, Thermal Pad 6000x5400mm, IPC Medium Density)
footprint INF-PG-DSO-36-50_L (SOP, 36-Leads, Body 12.7x7.5mm, Pitch 0.65mm, Thermal Pad 6000x5400mm, IPC High Density)
footprint INF-PG-DSO-36-50_M (SOP, 36-Leads, Body 12.7x7.5mm, Pitch 0.65mm, Thermal Pad 6000x5400mm, IPC Low Density)
part A pins: 1 GND (power) "Ground; internally connected to cooling tab (heat slug).", 2 OUT5 (power) "Power-Output of half-bridge 5; DMOS half-bridge", 3 OUT6 (power) "Power-Output of half-bridge 6; DMOS half-bridge.", 4 VS (power) "Power supply; needs decoupling capacitors to GND. > 47uF electrolytic in parallel with 100nF ceramic is recommended. All Vs pins must be connected externally", 5 ~{INH} (in) "Inhibit; active low. Sets the device in sleep mode with low current consumption when left open or pulled to LOW. Has an internal pull down current source", 6 PWM1 (in) "Logic Input for direct power stage control; direct input to control the high-side switches selected by the SPI xsel1 bits in control register CtrlReg01", 7 PWM2 (in) "Logic Input for direct power stage control; direct input to control the switches selected by the SPI xsel2 bits in control register CtrlReg11", 8 ISO (out) "Current sense output; Mirrors the current of the high-side switch selected by the current sense multiplexer control bits ISx", 9 VDD (power) "Logic Supply Voltage; needs decoupling capacitors to GND (pin 1). 10 uF electrolytic in parallel with 10 nF ceramic is recommended.", 10 DO (hiz) "Serial Data Output; Transfers data to the master when the chip is selected by CSN=LOW. Data transmission is synchronized by CLK, DO state is changed on the rising edge of CLK. The most significant bit (MSB) is transferred (See Datasheet)", 11 CLK (in) "Serial Data Clock Input; Receives the clock signal from the master and clocks the SPI shift register. Has an internal pull down current source", 12 CSN (in) "Serial Port Chip Select Not Input; SPI communication is enabled by pulling CSN to LOW. CLK must be LOW during the transition of CSN. The CSN-pin has an internal pull-up current source", 13 DI (in) "Serial Data Input; Receives serial data from the master when the chip is selected by CSN=LOW. Data transmission is synchronized by CLK. Data are accepted on the falling edge of CLK. The LSB is transferred first. The DI-pin (See Datasheet)", 14 GO (out) "Gate Out; Charge pump output to drive the gate of external n-channel MOS-FET for reverse polarity protection", 18 GND (power) "Ground; internally connected to cooling tab (heat slug).", 19 GND (power) "Ground; internally connected to cooling tab (heat slug).", 25 OUT10 (power) "Power-Output of High-Side Switch output 10; DMOS high-side switch (lamp driver", 26 VS (power) "Power supply; needs decoupling capacitors to GND. > 47uF electrolytic in parallel with 100nF ceramic is recommended. All Vs pins must be connected externally", 27 CP "Charge Pump; pin for optional external charge-pump reservoir capacitor. 3.3 nF to Vs is recommended", 29 OUT8 (power) "Power-Output of High-Side Switch output 8; DMOS high-side switch (lamp driver)", 30 VS (power) "Power supply; needs decoupling capacitors to GND. > 47uF electrolytic in parallel with 100nF ceramic is recommended. All Vs pins must be connected externally", 31 OUT7 (power) "Power Output of High-Side Switch output 7; DMOS high-side switch (mirror heat)", 32 OUT7 (power) "Power Output of High-Side Switch output 7; DMOS high-side switch (mirror heat)", 33 VS (power) "Power supply; needs decoupling capacitors to GND. > 47uF electrolytic in parallel with 100nF ceramic is recommended. All Vs pins must be connected externally", 34 OUT4 (power) "Power-Output of Half-Bridge output 4; DMOS half-bridge (sum of mirror position).", 36 GND (power) "Ground; internally connected to cooling tab (heat slug).", 37 GND (power) "Cooling Tab; internally connected to GND; To reduce thermal resistance, place cooling areas and thermal vias on PCB."
part B pins: 15 NC "Not Connected", 16 NC "Not Connected", 17 NC "Not Connected", 20 NC "Not Connected", 21 NC "Not Connected", 22 NC "Not Connected", 23 NC "Not Connected", 24 NC "Not Connected", 28 NC "Not Connected", 35 NC "Not connected"